# EAGLE library part FCCART (library FC_connector_2)
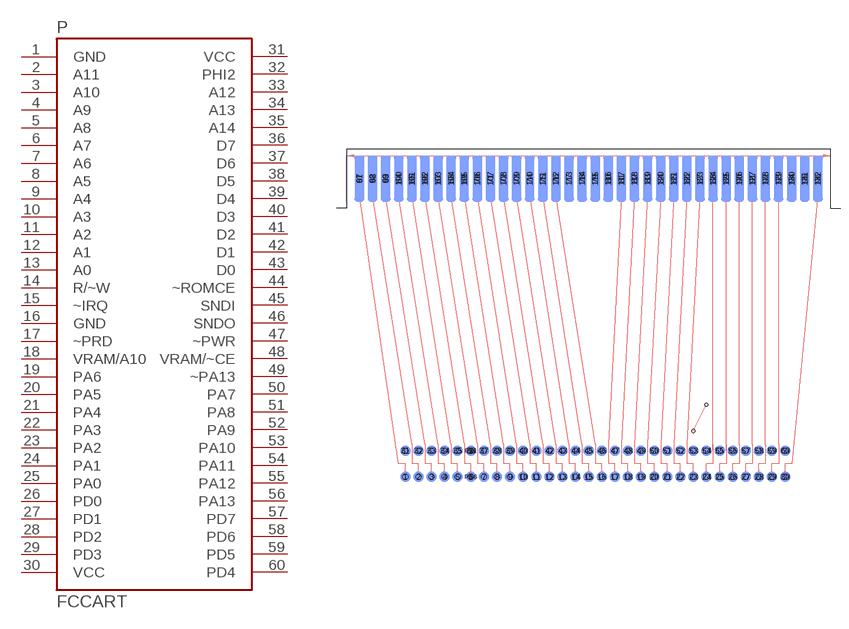
[diagram p0: symbol with the pads of FCCART; footprint FCCART]

Designator prefix P

## FCCART  [FCCART]
1  GND  sup
2  A11  out
3  A10  out
4  A9  out
5  A8  out
6  A7  out
7  A6  out
8  A5  out
9  A4  out
10  A3  out
11  A2  out
12  A1  out
13  A0  out
14  R/~W  out
15  ~IRQ  out
16  GND  sup
17  ~PRD  out
18  VRAM/A10  in
19  PA6  out
20  PA5  out
21  PA4  out
22  PA3  out
23  PA2  out
24  PA1  out
25  PA0  out
26  PD0
27  PD1
28  PD2
29  PD3
30  VCC  sup
31  VCC  sup
32  PHI2  out
33  A12  out
34  A13  out
35  A14  out
36  D7  out
37  D6  out
38  D5  out
39  D4  out
40  D3  out
41  D2  out
42  D1  out
43  D0  out
44  ~ROMCE  out
45  SNDI  out
46  SNDO  in
47  ~PWR  out
48  VRAM/~CE  in
49  ~PA13  out
50  PA7  out
51  PA8  out
52  PA9  out
53  PA10  out
54  PA11  out
55  PA12  out
56  PA13  out
57  PD7
58  PD6
59  PD5
60  PD4

## Footprint FCCART (pad centres in mm)
smd 2.032 x 2.032 bottom: 1 -36.83,-6.35; 2 -34.29,-6.35; 3 -31.75,-6.35; 4 -29.21,-6.35; 5 -26.67,-6.35; 6 -24.13,-6.35; 7 -21.59,-6.35; 8 -19.05,-6.35; 9 -16.51,-6.35; 10 -13.97,-6.35; 11 -11.43,-6.35; 12 -8.89,-6.35; 13 -6.35,-6.35; 14 -3.81,-6.35; 15 -1.27,-6.35; 16 1.27,-6.35; 17 3.81,-6.35; 18 6.35,-6.35; 19 8.89,-6.35; 20 11.43,-6.35; 21 13.97,-6.35; 22 16.51,-6.35; 23 19.05,-6.35; 24 21.59,-6.35; 25 24.13,-6.35; 26 26.67,-6.35; 27 29.21,-6.35; 28 31.75,-6.35; 29 34.29,-6.35; 30 36.83,-6.35; 31 -36.83,-1.27; 32 -34.29,-1.27; 33 -31.75,-1.27; 34 -29.21,-1.27; 35 -26.67,-1.27; 36 -24.13,-1.27; 37 -21.59,-1.27; 38 -19.05,-1.27; 39 -16.51,-1.27; 40 -13.97,-1.27; 41 -11.43,-1.27; 42 -8.89,-1.27; 43 -6.35,-1.27; 44 -3.81,-1.27; 45 -1.27,-1.27; 46 1.27,-1.27; 47 3.81,-1.27; 48 6.35,-1.27; 49 8.89,-1.27; 50 11.43,-1.27; 51 13.97,-1.27; 52 16.51,-1.27; 53 19.05,-1.27; 54 21.59,-1.27; 55 24.13,-1.27; 56 26.67,-1.27; 57 29.21,-1.27; 58 31.75,-1.27; 59 34.29,-1.27; 60 36.83,-1.27; P$1 -24.13,-1.27; P$6 -24.13,-6.35
smd 1.905 x 8.89: 61 -45.72,51.435; 62 -43.18,51.435; 63 -40.64,51.435; 64 -38.1,51.435; 65 -35.56,51.435; 66 -33.02,51.435; 67 -30.48,51.435; 68 -27.94,51.435; 69 -25.4,51.435; 70 -22.86,51.435; 71 -20.32,51.435; 72 -17.78,51.435; 73 -15.24,51.435; 74 -12.7,51.435; 75 -10.16,51.435; 76 -7.62,51.435; 77 -5.08,51.435; 78 -2.54,51.435; 79 0,51.435; 80 2.54,51.435; 81 5.08,51.435; 82 7.62,51.435; 83 10.16,51.435; 84 12.7,51.435; 85 15.24,51.435; 86 17.78,51.435; 87 20.32,51.435; 88 22.86,51.435; 89 25.4,51.435; 90 27.94,51.435; 91 30.48,51.435; 92 33.02,51.435; 93 35.56,51.435; 94 38.1,51.435; 95 40.64,51.435; 96 43.18,51.435
smd 1.905 x 8.89 bottom: 97 -45.72,51.435; 98 -43.18,51.435; 99 -40.64,51.435; 100 -38.1,51.435; 101 -35.56,51.435; 102 -33.02,51.435; 103 -30.48,51.435; 104 -27.94,51.435; 105 -25.4,51.435; 106 -22.86,51.435; 107 -20.32,51.435; 108 -17.78,51.435; 109 -15.24,51.435; 110 -12.7,51.435; 111 -10.16,51.435; 112 -7.62,51.435; 113 -5.08,51.435; 114 -2.54,51.435; 115 0,51.435; 116 2.54,51.435; 117 5.08,51.435; 118 7.62,51.435; 119 10.16,51.435; 120 12.7,51.435; 121 15.24,51.435; 122 17.78,51.435; 123 20.32,51.435; 124 22.86,51.435; 125 25.4,51.435; 126 27.94,51.435; 127 30.48,51.435; 128 33.02,51.435; 129 35.56,51.435; 130 38.1,51.435; 131 40.64,51.435; 132 43.18,51.435
hole 1 at -36.83,-6.35
hole 1 at -34.29,-6.35
hole 1 at -31.75,-6.35
hole 1 at -29.21,-6.35
hole 1 at -26.67,-6.35
hole 1 at -24.13,-6.35
hole 1 at -24.13,-6.35
hole 1 at -21.59,-6.35
hole 1 at -19.05,-6.35
hole 1 at -16.51,-6.35
hole 1 at -13.97,-6.35
hole 1 at -11.43,-6.35
hole 1 at -8.89,-6.35
hole 1 at -6.35,-6.35
hole 1 at -3.81,-6.35
hole 1 at -1.27,-6.35
hole 1 at 1.27,-6.35
hole 1 at 3.81,-6.35
hole 1 at 6.35,-6.35
hole 1 at 8.89,-6.35
hole 1 at 11.43,-6.35
hole 1 at 13.97,-6.35
hole 1 at 16.51,-6.35
hole 1 at 19.05,-6.35
hole 1 at 21.59,-6.35
hole 1 at 24.13,-6.35
hole 1 at 26.67,-6.35
hole 1 at 29.21,-6.35
hole 1 at 31.75,-6.35
hole 1 at 34.29,-6.35
hole 1 at 36.83,-6.35
hole 1 at -34.29,-1.27
hole 1 at -31.75,-1.27
hole 1 at -29.21,-1.27
hole 1 at -26.67,-1.27
hole 1 at -24.13,-1.27
hole 1 at -24.13,-1.27
hole 1 at -21.59,-1.27
hole 1 at -19.05,-1.27
hole 1 at -16.51,-1.27
hole 1 at -13.97,-1.27
hole 1 at -11.43,-1.27
hole 1 at -8.89,-1.27
hole 1 at -6.35,-1.27
hole 1 at -3.81,-1.27
hole 1 at -1.27,-1.27
hole 1 at 1.27,-1.27
hole 1 at 3.81,-1.27
hole 1 at 6.35,-1.27
hole 1 at 8.89,-1.27
hole 1 at 11.43,-1.27
hole 1 at 13.97,-1.27
hole 1 at 16.51,-1.27
hole 1 at 19.05,-1.27
hole 1 at 21.59,-1.27
hole 1 at 24.13,-1.27
hole 1 at 26.67,-1.27
hole 1 at 29.21,-1.27
hole 1 at 31.75,-1.27
hole 1 at 34.29,-1.27
hole 1 at 36.83,-1.27
hole 1 at -34.29,-1.27
hole 1 at -36.83,-1.27
hole 0.6 at 19.05,2.54
hole 0.6 at 21.59,7.62